# EAGLE library part RJ-45_LEDS (library SW_Connectors)
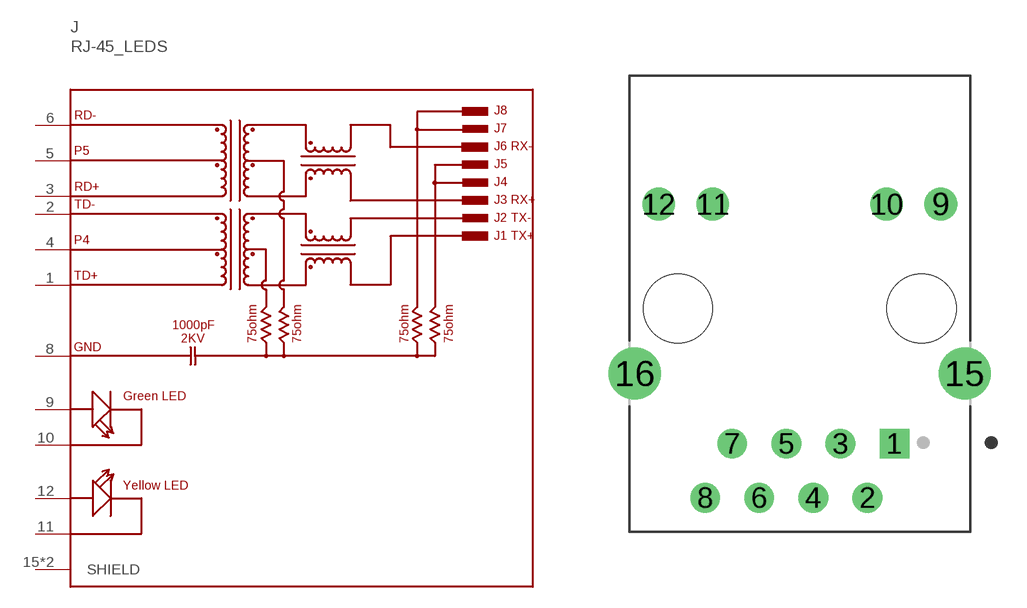
[diagram p14: symbol with the pads of HANRUN_HR911105A; footprint HANRUN_HR911105A]

Designator prefix J

## RJ-45_LEDS (CATEGORY: Connectors; DESCRIPTION: HR911105A Ethernet Interface Arduino Platform Evaluation Expansion Board; MFGS: Hanrun; MPNS: HR911105A; PACKAGE: RJ-45; PART_NUMBER: HR911105A; SW_PART_NUMBER: SW0007807)  [HANRUN_HR911105A]
1  TD+  pas
2  TD-  pas
3  RD+  pas
4  P4  pas
5  P5  pas
6  RD-  pas
8  GND  pwr
9  GA  pas
10  GC  pas
11  YC  pas
12  YA  pas
15  SHIELD  pas
16  SHIELD  pas

## Footprint HANRUN_HR911105A (pad centres in mm)
drill 0.89 square: 1 4.45,-6.35
drill 0.89: 2 3.18,-8.89; 3 1.91,-6.35; 4 0.64,-8.89; 5 -0.63,-6.35; 6 -1.9,-8.89; 7 -3.17,-6.35; 8 -4.44,-8.89
drill 1.02: 9 6.625,4.9; 10 4.085,4.9; 11 -4.085,4.9; 12 -6.625,4.9
drill 1.63: 15 7.745,-3.05; 16 -7.745,-3.05
hole 3.25 at -5.715,0
hole 3.25 at 5.715,0